# Altium schematic symbol library PLD2-2.Schlib: 1 symbol
Pins are listed as number, name and electrical type; pins without a type are passive.

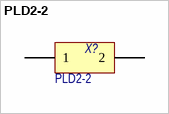
[diagram p0: symbol PLD2-2]

## PLD2-2
designator X?, comment Наименование: PLD2-2  (hidden comment: Header 2X1)
Header, 2-Pin, Dual row; Потребление, Вт: 0,0; Назначение: Header, 2-Pin, Dual row
footprint PLD2-2
pins: 1, 2